# Altium footprint library BC547.PcbLib: 1 footprints
Each footprint in its own frame and in the unit in brackets; x right, y up, seen from the top. Pads: shape width x height; smd on the part's side, far side on the other; paste and mask are expansions set on the pad; w line width, h text height; cw(c..) or ccw(c..) is an arc to the next point about the centre after c.
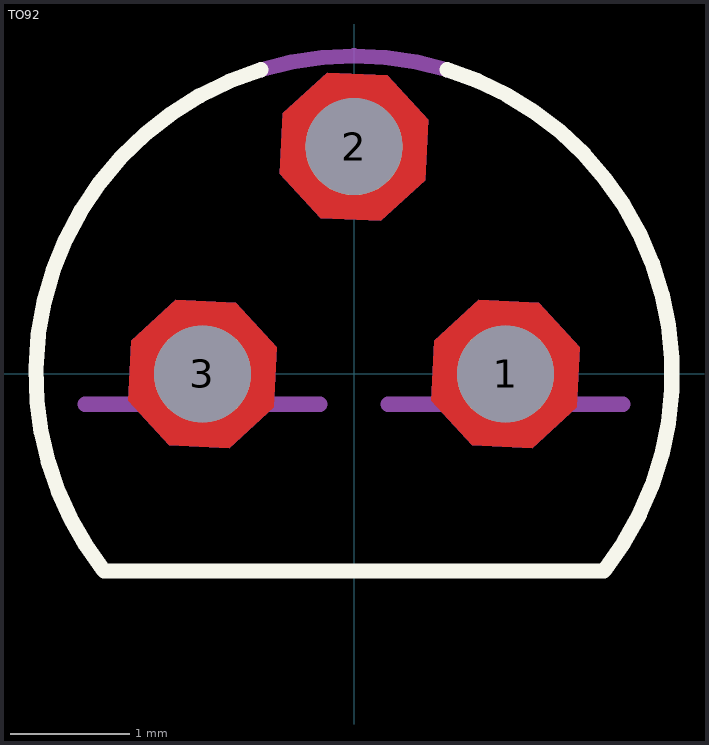
[diagram p0: the footprint, top view; thin cyan lines are the x and y axes]

## TO92 [mil]
pads (3):
  round 32 hole 32: 1(50,0) 2(0,75) 3(-50,0)
Top Layer:
  region: -25.57,8.89 -39.01,23.56 -58.89,24.43 -73.56,10.99 -74.43,-8.89 -60.99,-23.56 -41.11,-24.43 -26.44,-10.99
  region: 24.43,83.89 10.99,98.56 -8.89,99.43 -23.56,85.99 -24.43,66.11 -10.99,51.44 8.89,50.57 23.56,64.01
  region: 74.43,8.89 60.99,23.56 41.11,24.43 26.44,10.99 25.57,-8.89 39.01,-23.56 58.89,-24.43 73.56,-10.99
Bottom Layer:
  region: -25.57,8.89 -39.01,23.56 -58.89,24.43 -73.56,10.99 -74.43,-8.89 -60.99,-23.56 -41.11,-24.43 -26.44,-10.99
  region: 24.43,83.89 10.99,98.56 -8.89,99.43 -23.56,85.99 -24.43,66.11 -10.99,51.44 8.89,50.57 23.56,64.01
  region: 74.43,8.89 60.99,23.56 41.11,24.43 26.44,10.99 25.57,-8.89 39.01,-23.56 58.89,-24.43 73.56,-10.99
Top Overlay:
  lines w5: -82.74,-64.65 cw(c0,0) -104.6,-9.15 cw(c0,0) -30.7,100.41 ; -82.46,-65 82.46,-65 ; 30.7,100.41 cw(c0,0) 82.74,-64.64
Mechanical 4:
  lines w5: -88.73,-10 -11.27,-10 -88.73,-10 ; -30.7,100.41 cw(c0,0) 30.7,100.41 ccw(c0,0) -30.7,100.41 ; 11.27,-10 88.73,-10 11.27,-10
  text "1" at 45.08,-9.84 h73.82
  text "3" at -85.12,-9.84 h73.82
  text "2" at -25.03,15.19 h73.82
  text "1" at 45.08,-9.84 h73.82
  text "3" at -85.12,-9.84 h73.82
  text "2" at -25.03,15.19 h73.82
Multi-Layer:
  region: -25.57,8.89 -39.01,23.56 -58.89,24.43 -73.56,10.99 -74.43,-8.89 -60.99,-23.56 -41.11,-24.43 -26.44,-10.99
  region: 24.43,83.89 10.99,98.56 -8.89,99.43 -23.56,85.99 -24.43,66.11 -10.99,51.44 8.89,50.57 23.56,64.01
  region: 74.43,8.89 60.99,23.56 41.11,24.43 26.44,10.99 25.57,-8.89 39.01,-23.56 58.89,-24.43 73.56,-10.99